# Altium schematic symbol library NCV1117ST50T3G.SchLib: 2 symbols
Pins are listed as number, name and electrical type; pins without a type are passive.

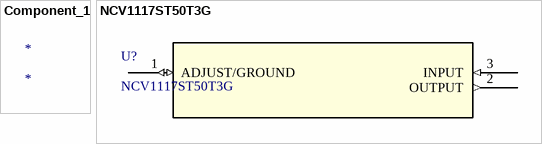
[diagram p0: symbols Component_1 to NCV1117ST50T3G]

## Component_1
designator *

## NCV1117ST50T3G
designator U?
No Description Available; Mfr_Name: ON Semiconductor; Copyright: Copyright (C) 2021 Ultra Librarian. All rights reserved.; Manufacturer_Part_Number: NCV1117ST50T3G; RefDes: RefDes; Type: DEV
footprint SOT223-3_ONS
pins: 1 ADJUST/GROUND (io), 2 OUTPUT (out), 3 INPUT (in)